# EAGLE library part TQ2-*V (library mylib)
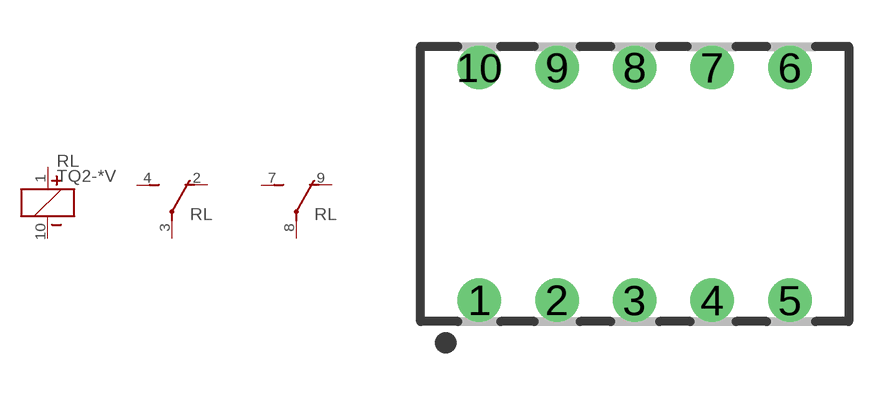
[diagram p139: symbol with the pads of TQ; footprint TQ]

Designator prefix RL; gates G$1=RELAY-COIL-POL G$2=PART-RELAY-SW G$3=PART-RELAY-SW

## TQ2-5V (DIGIKEY: 255-1001-5-ND; MOUSER: 769-TQ2-5V)  [TQ]
1  G$1:1  pas
2  G$2:NC  pas
3  G$2:COM  pas
4  G$2:NO  pas
7  G$3:NO  pas
8  G$3:COM  pas
9  G$3:NC  pas
10  G$1:2  pas

## Footprint TQ (pad centres in mm)
drill 0.85 pad 1.422: 1 -5.08,-3.81; 2 -2.54,-3.81; 3 0,-3.81; 4 2.54,-3.81; 5 5.08,-3.81; 6 5.08,3.81; 7 2.54,3.81; 8 0,3.81; 9 -2.54,3.81; 10 -5.08,3.81